# EAGLE library part MM74HC164N (library Fairchild_By_element14_Batch_1)
8-Bit Serial-in/Parallel-out Shift Register
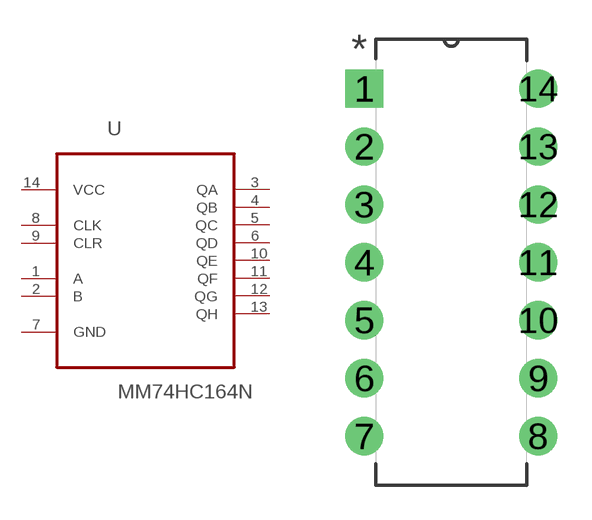
[diagram p256: symbol with the pads of DIP254P762X533-14; footprint DIP254P762X533-14]

Designator prefix U

## MM74HC164N (MPN: MM74HC164N; OC_FARNELL: 1013927; OC_NEWARK: -; PACKAGE: PDIP-14; SUPPLIER: Fairchild)  [DIP254P762X533-14]
1  A  in
2  B  in
3  QA  out
4  QB  out
5  QC  out
6  QD  out
7  GND  pas
8  CLK  in
9  CLR  in
10  QE  out
11  QF  out
12  QG  out
13  QH  out
14  VCC  pwr

## Footprint DIP254P762X533-14 (pad centres in mm)
drill 1.118 square: 1 -7.62,15.24
drill 1.118: 2 -7.62,12.7; 3 -7.62,10.16; 4 -7.62,7.62; 5 -7.62,5.08; 6 -7.62,2.54; 7 -7.62,0; 8 0,0; 9 0,2.54; 10 0,5.08; 11 0,7.62; 12 0,10.16; 13 0,12.7; 14 0,15.24